# EAGLE library part LCMXO2-256* (library ELL-i-DigitalIC)
MachXO2-256 in csBGA132 or TQFP144 package. Lattice MachXO2-series FPGA in a 132 ball chip size BGA or 144 lead TQFP package. Datasheet <http://www.latticesemi.com/~/media/Documents/DataSheets/MachXO23/MachXO2FamilyDataSheet.pdf> (DS1035) .
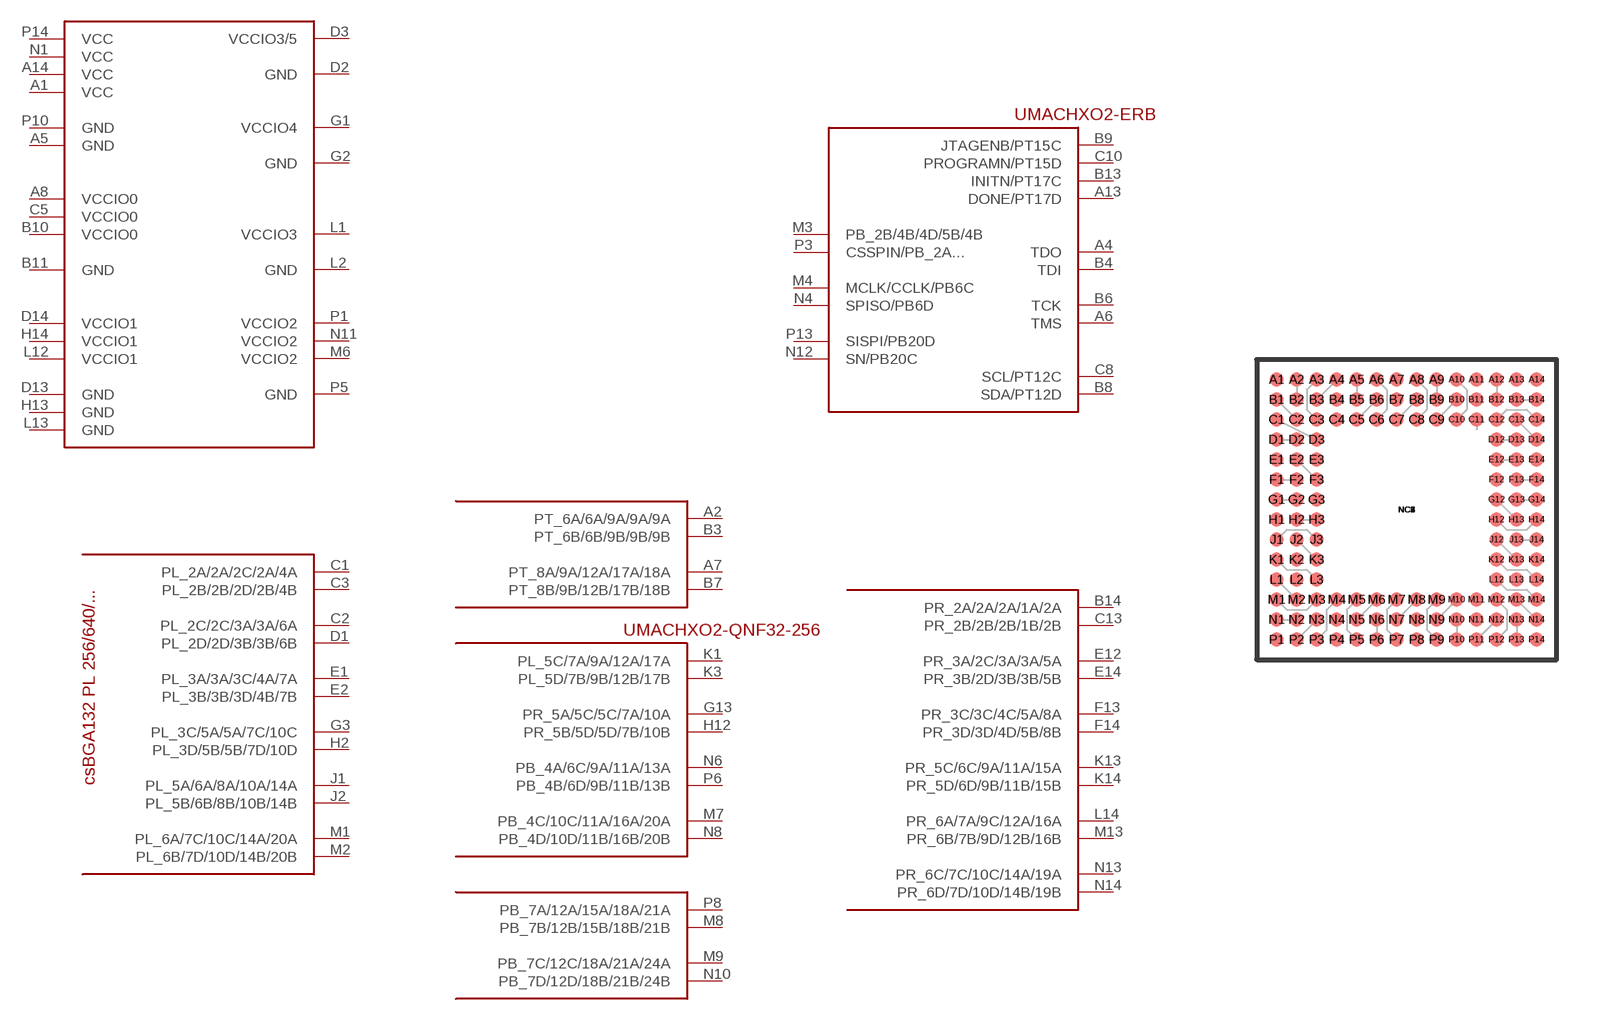
[diagram p5: symbol with the pads of CSBGA132-MACHXO2; footprint CSBGA132-MACHXO2]

Designator prefix U; gates MACHXO2-PWR=MACHXO2-CSBGA132-PWR MACHXO2-ERB=MACHXO2-ERB MACHXO2-CSBGA132-256-TOP=MACHXO2-CSBGA132-256-TOP MACHXO2-CSBA132-256-LEFT=MACHXO2-CSBGA132-256-LEFT MACHXO2-CSBGA132-256-RIGHT=MACHXO2-CSBGA132-256-RIGHT MACHXO2-CSBGA132-256-BOTTOM=MACHXO2-CSBGA132-256-BOTTOM MACHXO2-QNF32-256=MACHXO2-QFN32-256

## LCMXO2-256HC-4MG132, LCMXO2-256HC-5MG132, LCMXO2-256HC-6MG132, LCMXO2-256HE-4MG132, LCMXO2-256HE-5MG132, LCMXO2-256HE-6MG132, LCMXO2-256ZE-1MG132, LCMXO2-256ZE-2MG132, LCMXO2-256ZE-3MG132  [CSBGA132-MACHXO2]
A1  MACHXO2-PWR:VCC
A2  MACHXO2-CSBGA132-256-TOP:PT_6A/6A/9A/9A/9A
A4  MACHXO2-ERB:TDO
A5  MACHXO2-PWR:GND
A6  MACHXO2-ERB:TMS
A7  MACHXO2-CSBGA132-256-TOP:PT_8A/9A/12A/17A/18A
A8  MACHXO2-PWR:VCCIO0
A13  MACHXO2-ERB:DONE/PT17D
A14  MACHXO2-PWR:VCC
B3  MACHXO2-CSBGA132-256-TOP:PT_6B/6B/9B/9B/9B
B4  MACHXO2-ERB:TDI
B6  MACHXO2-ERB:TCK
B7  MACHXO2-CSBGA132-256-TOP:PT_8B/9B/12B/17B/18B
B8  MACHXO2-ERB:SDA/PT12D
B9  MACHXO2-ERB:JTAGENB/PT15C
B10  MACHXO2-PWR:VCCIO0
B11  MACHXO2-PWR:GND
B13  MACHXO2-ERB:INITN/PT17C
B14  MACHXO2-CSBGA132-256-RIGHT:PR_2A/2A/2A/1A/2A
C1  MACHXO2-CSBA132-256-LEFT:PL_2A/2A/2C/2A/4A
C2  MACHXO2-CSBA132-256-LEFT:PL_2C/2C/3A/3A/6A
C3  MACHXO2-CSBA132-256-LEFT:PL_2B/2B/2D/2B/4B
C5  MACHXO2-PWR:VCCIO0
C8  MACHXO2-ERB:SCL/PT12C
C10  MACHXO2-ERB:PROGRAMN/PT15D
C13  MACHXO2-CSBGA132-256-RIGHT:PR_2B/2B/2B/1B/2B
D1  MACHXO2-CSBA132-256-LEFT:PL_2D/2D/3B/3B/6B
D2  MACHXO2-PWR:GND
D3  MACHXO2-PWR:VCCIO3/5
D13  MACHXO2-PWR:GND
D14  MACHXO2-PWR:VCCIO1
E1  MACHXO2-CSBA132-256-LEFT:PL_3A/3A/3C/4A/7A
E2  MACHXO2-CSBA132-256-LEFT:PL_3B/3B/3D/4B/7B
E12  MACHXO2-CSBGA132-256-RIGHT:PR_3A/2C/3A/3A/5A
E14  MACHXO2-CSBGA132-256-RIGHT:PR_3B/2D/3B/3B/5B
F13  MACHXO2-CSBGA132-256-RIGHT:PR_3C/3C/4C/5A/8A
F14  MACHXO2-CSBGA132-256-RIGHT:PR_3D/3D/4D/5B/8B
G1  MACHXO2-PWR:VCCIO4
G2  MACHXO2-PWR:GND
G3  MACHXO2-CSBA132-256-LEFT:PL_3C/5A/5A/7C/10C
G13  MACHXO2-QNF32-256:PR_5A/5C/5C/7A/10A
H2  MACHXO2-CSBA132-256-LEFT:PL_3D/5B/5B/7D/10D
H12  MACHXO2-QNF32-256:PR_5B/5D/5D/7B/10B
H13  MACHXO2-PWR:GND
H14  MACHXO2-PWR:VCCIO1
J1  MACHXO2-CSBA132-256-LEFT:PL_5A/6A/8A/10A/14A
J2  MACHXO2-CSBA132-256-LEFT:PL_5B/6B/8B/10B/14B
K1  MACHXO2-QNF32-256:PL_5C/7A/9A/12A/17A
K3  MACHXO2-QNF32-256:PL_5D/7B/9B/12B/17B
K13  MACHXO2-CSBGA132-256-RIGHT:PR_5C/6C/9A/11A/15A
K14  MACHXO2-CSBGA132-256-RIGHT:PR_5D/6D/9B/11B/15B
L1  MACHXO2-PWR:VCCIO3
L2  MACHXO2-PWR:GND
L12  MACHXO2-PWR:VCCIO1
L13  MACHXO2-PWR:GND
L14  MACHXO2-CSBGA132-256-RIGHT:PR_6A/7A/9C/12A/16A
M1  MACHXO2-CSBA132-256-LEFT:PL_6A/7C/10C/14A/20A
M2  MACHXO2-CSBA132-256-LEFT:PL_6B/7D/10D/14B/20B
M3  MACHXO2-ERB:PB_2B/4B/4D/5B/4B
M4  MACHXO2-ERB:MCLK/CCLK/PB6C
M6  MACHXO2-PWR:VCCIO2
M7  MACHXO2-QNF32-256:PB_4C/10C/11A/16A/20A
M8  MACHXO2-CSBGA132-256-BOTTOM:PB_7B/12B/15B/18B/21B
M9  MACHXO2-CSBGA132-256-BOTTOM:PB_7C/12C/18A/21A/24A
M13  MACHXO2-CSBGA132-256-RIGHT:PR_6B/7B/9D/12B/16B
N1  MACHXO2-PWR:VCC
N4  MACHXO2-ERB:SPISO/PB6D
N6  MACHXO2-QNF32-256:PB_4A/6C/9A/11A/13A
N8  MACHXO2-QNF32-256:PB_4D/10D/11B/16B/20B
N10  MACHXO2-CSBGA132-256-BOTTOM:PB_7D/12D/18B/21B/24B
N11  MACHXO2-PWR:VCCIO2
N12  MACHXO2-ERB:SN/PB20C
N13  MACHXO2-CSBGA132-256-RIGHT:PR_6C/7C/10C/14A/19A
N14  MACHXO2-CSBGA132-256-RIGHT:PR_6D/7D/10D/14B/19B
P1  MACHXO2-PWR:VCCIO2
P3  MACHXO2-ERB:CSSPIN/PB_2A...
P5  MACHXO2-PWR:GND
P6  MACHXO2-QNF32-256:PB_4B/6D/9B/11B/13B
P8  MACHXO2-CSBGA132-256-BOTTOM:PB_7A/12A/15A/18A/21A
P10  MACHXO2-PWR:GND
P13  MACHXO2-ERB:SISPI/PB20D
P14  MACHXO2-PWR:VCC

## Footprint CSBGA132-MACHXO2 (pad centres in mm)
132 balls chip sized Ball Grid Array (BGA) for Lattice MachXO2 series FPGAs 8x8 mm, 0.5 mm pitch. Note that this package has extra non-connected invisible 0.0x0.0 sized pads, in the middle, named NC1-NC7. That facilitates allowing csBGA 132 and TQFP 144 packages to be used with the same device. Note that this package extra annotation in the Docu layer, showing which balls form together pin pairs in the FPGA pin assignment. Lattice Package Diagrams <http://www.latticesemi.com/~/media/Documents/DataSheets/PackageDiagrams.pdf>
smd 0.35 x 0.35: A1 -3.25,3.25; A2 -2.75,3.25; A3 -2.25,3.25; A4 -1.75,3.25; A5 -1.25,3.25; A6 -0.75,3.25; A7 -0.25,3.25; A8 0.25,3.25; A9 0.75,3.25; A10 1.25,3.25; A11 1.75,3.25; A12 2.25,3.25; A13 2.75,3.25; A14 3.25,3.25; B1 -3.25,2.75; B2 -2.75,2.75; B3 -2.25,2.75; B4 -1.75,2.75; B5 -1.25,2.75; B6 -0.75,2.75; B7 -0.25,2.75; B8 0.25,2.75; B9 0.75,2.75; B10 1.25,2.75; B11 1.75,2.75; B12 2.25,2.75; B13 2.75,2.75; B14 3.25,2.75; C1 -3.25,2.25; C2 -2.75,2.25; C3 -2.25,2.25; C4 -1.75,2.25; C5 -1.25,2.25; C6 -0.75,2.25; C7 -0.25,2.25; C8 0.25,2.25; C9 0.75,2.25; C10 1.25,2.25; C11 1.75,2.25; C12 2.25,2.25; C13 2.75,2.25; C14 3.25,2.25; D1 -3.25,1.75; D2 -2.75,1.75; D3 -2.25,1.75; D12 2.25,1.75; D13 2.75,1.75; D14 3.25,1.75; E1 -3.25,1.25; E2 -2.75,1.25; E3 -2.25,1.25; E12 2.25,1.25; E13 2.75,1.25; E14 3.25,1.25; F1 -3.25,0.75; F2 -2.75,0.75; F3 -2.25,0.75; F12 2.25,0.75; F13 2.75,0.75; F14 3.25,0.75; G1 -3.25,0.25; G2 -2.75,0.25; G3 -2.25,0.25; G12 2.25,0.25; G13 2.75,0.25; G14 3.25,0.25; H1 -3.25,-0.25; H2 -2.75,-0.25; H3 -2.25,-0.25; H12 2.25,-0.25; H13 2.75,-0.25; H14 3.25,-0.25; J1 -3.25,-0.75; J2 -2.75,-0.75; J3 -2.25,-0.75; J12 2.25,-0.75; J13 2.75,-0.75; J14 3.25,-0.75; K1 -3.25,-1.25; K2 -2.75,-1.25; K3 -2.25,-1.25; K12 2.25,-1.25; K13 2.75,-1.25; K14 3.25,-1.25; L1 -3.25,-1.75; L2 -2.75,-1.75; L3 -2.25,-1.75; L12 2.25,-1.75; L13 2.75,-1.75; L14 3.25,-1.75; M1 -3.25,-2.25; M2 -2.75,-2.25; M3 -2.25,-2.25; M4 -1.75,-2.25; M5 -1.25,-2.25; M6 -0.75,-2.25; M7 -0.25,-2.25; M8 0.25,-2.25; M9 0.75,-2.25; M10 1.25,-2.25; M11 1.75,-2.25; M12 2.25,-2.25; M13 2.75,-2.25; M14 3.25,-2.25; N1 -3.25,-2.75; N2 -2.75,-2.75; N3 -2.25,-2.75; N4 -1.75,-2.75; N5 -1.25,-2.75; N6 -0.75,-2.75; N7 -0.25,-2.75; N8 0.25,-2.75; N9 0.75,-2.75; N10 1.25,-2.75; N11 1.75,-2.75; N12 2.25,-2.75; N13 2.75,-2.75; N14 3.25,-2.75; P1 -3.25,-3.25; P2 -2.75,-3.25; P3 -2.25,-3.25; P4 -1.75,-3.25; P5 -1.25,-3.25; P6 -0.75,-3.25; P7 -0.25,-3.25; P8 0.25,-3.25; P9 0.75,-3.25; P10 1.25,-3.25; P11 1.75,-3.25; P12 2.25,-3.25; P13 2.75,-3.25; P14 3.25,-3.25
smd 0 x 0: NC1 0,0; NC2 0,0; NC3 0,0; NC4 0,0; NC5 0,0; NC6 0,0; NC7 0,0